# EAGLE library part IC_MEM_AT45DBX* (library psas)
Serial DataFlash
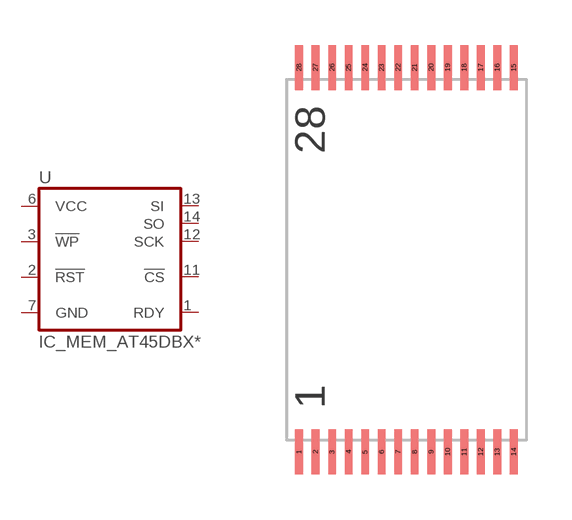
[diagram p36: symbol with the pads of TSOP-28-8X13.4; footprint TSOP-28-8X13.4]

Designator prefix U

## IC_MEM_AT45DBX-TC  [TSOP-28-8X13.4]
1  RDY  out
2  !RST  in
3  !WP  in
6  VCC  in
7  GND  in
11  !CS  in
12  SCK  in
13  SI  in
14  SO  hiz

## Footprint TSOP-28-8X13.4 (pad centres in mm)
TSOP-28 8mm x 13.4mm, 0.55mm pitch Std. Memory package
smd 0.26 x 1.5: 1 -3.575,-6.4; 2 -3.025,-6.4; 3 -2.475,-6.4; 4 -1.925,-6.4; 5 -1.375,-6.4; 6 -0.825,-6.4; 7 -0.275,-6.4; 8 0.275,-6.4; 9 0.825,-6.4; 10 1.375,-6.4; 11 1.925,-6.4; 12 2.475,-6.4; 13 3.025,-6.4; 14 3.575,-6.4; 15 3.575,6.4; 16 3.025,6.4; 17 2.475,6.4; 18 1.925,6.4; 19 1.375,6.4; 20 0.825,6.4; 21 0.275,6.4; 22 -0.275,6.4; 23 -0.825,6.4; 24 -1.375,6.4; 25 -1.925,6.4; 26 -2.475,6.4; 27 -3.025,6.4; 28 -3.575,6.4